# Altium footprint library LM_B65888C1512T001_RM14_12PIN.PcbLib: 1 footprints
Each footprint in its own frame and in the unit in brackets; x right, y up, seen from the top. Pads: shape width x height; smd on the part's side, far side on the other; paste and mask are expansions set on the pad; w line width, h text height; cw(c..) or ccw(c..) is an arc to the next point about the centre after c.
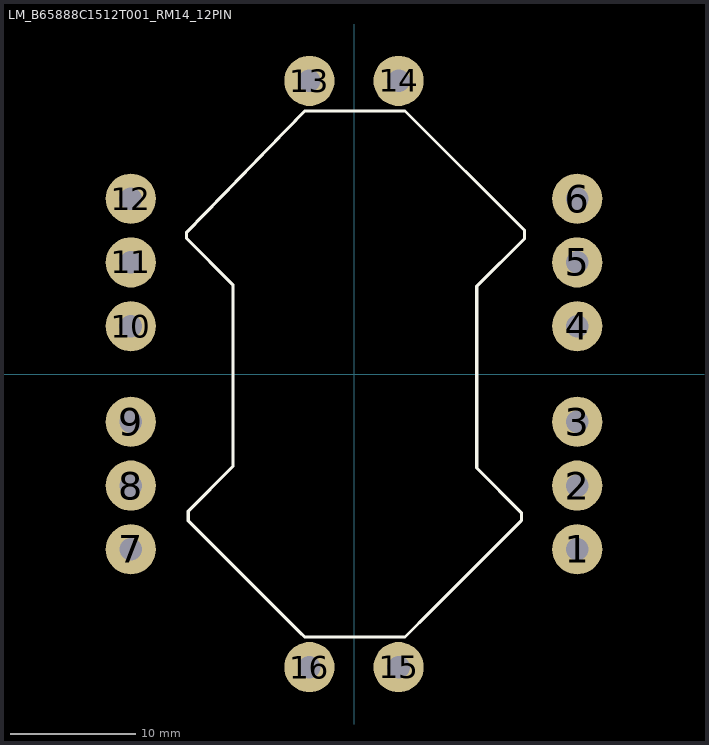
[diagram p0: the footprint, top view; thin cyan lines are the x and y axes]

## LM_B65888C1512T001_RM14_12PIN [mm]
pads (16):
  round 4 hole 1.8: 1(17.78,-13.97) 2(17.78,-8.89) 3(17.78,-3.81) 4(17.78,3.81) 5(17.78,8.89) 6(17.78,13.97) 7(-17.78,-13.97) 8(-17.78,-8.89) 9(-17.78,-3.81) 10(-17.78,3.81) 11(-17.78,8.89) 12(-17.78,13.97) 13(-3.55,23.35) 14(3.55,23.35) 15(3.55,-23.35) 16(-3.55,-23.35)
Top Overlay:
  lines w0.254: -13.335,10.795 -13.335,11.303 -3.937,20.955 4.064,20.955 13.589,11.43 13.589,10.795 9.779,6.985 9.779,6.717 9.779,-7.493 13.335,-11.049 13.335,-11.684 6.223,-18.796 4.064,-20.955 -3.937,-20.955 -4.286,-20.606 -13.202,-11.69 -13.209,-10.923 -9.652,-7.366 -9.652,7.112 -13.335,10.795
3D body "rm14_B65888C1512T001.stp": height 31.35, standoff -3.45, extent -25.325,-23.565 25.275,23.683